# EAGLE library part XF2M-4015-1A (library XF2M-4015-1A)
Omron XF2M Series 0.5mm Pitch 40 Way 1 Row Right Angle SMT Female FPC Connector Locking Mechanism Source: Datasheet <https://componentsearchengine.com/Datasheets/1/XF2M-4015-1A.pdf>
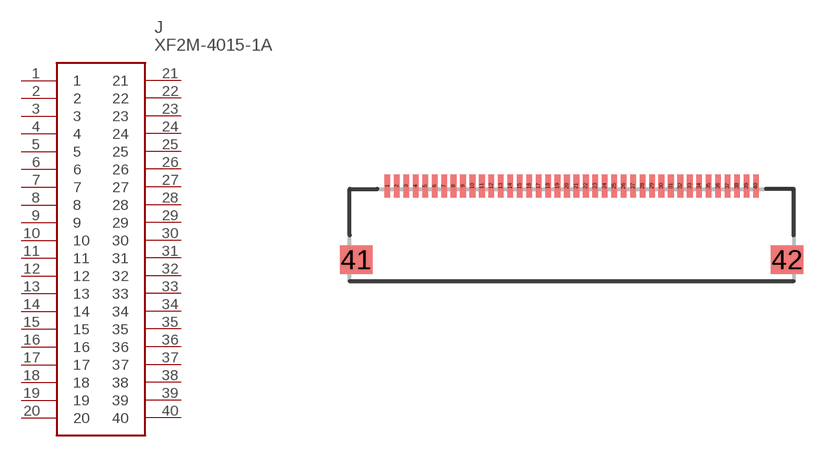
[diagram p0: symbol with the pads of XF2M-XX15-1A; footprint XF2M-XX15-1A]

Designator prefix J

## XF2M-4015-1A (Description: Omron XF2M Series 0.5mm Pitch 40 Way 1 Row Right Angle SMT Female FPC Connector Locking Mechanism; Height: mm; Manufacturer_Name: Omron Electronics; Manufacturer_Part_Number: XF2M-4015-1A; Mouser_Part_Number: 653-XF2M-4015-1A; Mouser_Price-Stock: https://www.mouser.com/Search/Refine.aspx?Keyword=653-XF2M-4015-1A)  [XF2M-XX15-1A]
1  1
2  2
3  3
4  4
5  5
6  6
7  7
8  8
9  9
10  10
11  11
12  12
13  13
14  14
15  15
16  16
17  17
18  18
19  19
20  20
21  21
22  22
23  23
24  24
25  25
26  26
27  27
28  28
29  29
30  30
31  31
32  32
33  33
34  34
35  35
36  36
37  37
38  38
39  39
40  40

## Footprint XF2M-XX15-1A (pad centres in mm)
XF2M-XX15-1A
smd 0.3 x 1.2: 1 -9.75,0; 2 -9.25,0; 3 -8.75,0; 4 -8.25,0; 5 -7.75,0; 6 -7.25,0; 7 -6.75,0; 8 -6.25,0; 9 -5.75,0; 10 -5.25,0; 11 -4.75,0; 12 -4.25,0; 13 -3.75,0; 14 -3.25,0; 15 -2.75,0; 16 -2.25,0; 17 -1.75,0; 18 -1.25,0; 19 -0.75,0; 20 -0.25,0; 21 0.25,0; 22 0.75,0; 23 1.25,0; 24 1.75,0; 25 2.25,0; 26 2.75,0; 27 3.25,0; 28 3.75,0; 29 4.25,0; 30 4.75,0; 31 5.25,0; 32 5.75,0; 33 6.25,0; 34 6.75,0; 35 7.25,0; 36 7.75,0; 37 8.25,0; 38 8.75,0; 39 9.25,0; 40 9.75,0
smd 1.7 x 1.5: 41 -11.4,-3.9; 42 11.4,-3.9